# Altium schematic symbol library SCH - MCU - STM32 - ST MICROELECTRONICS STM32H7B3VITXQ LQFP100.SchLib: 1 symbol
Pins are listed as number, name and electrical type; pins without a type are passive.

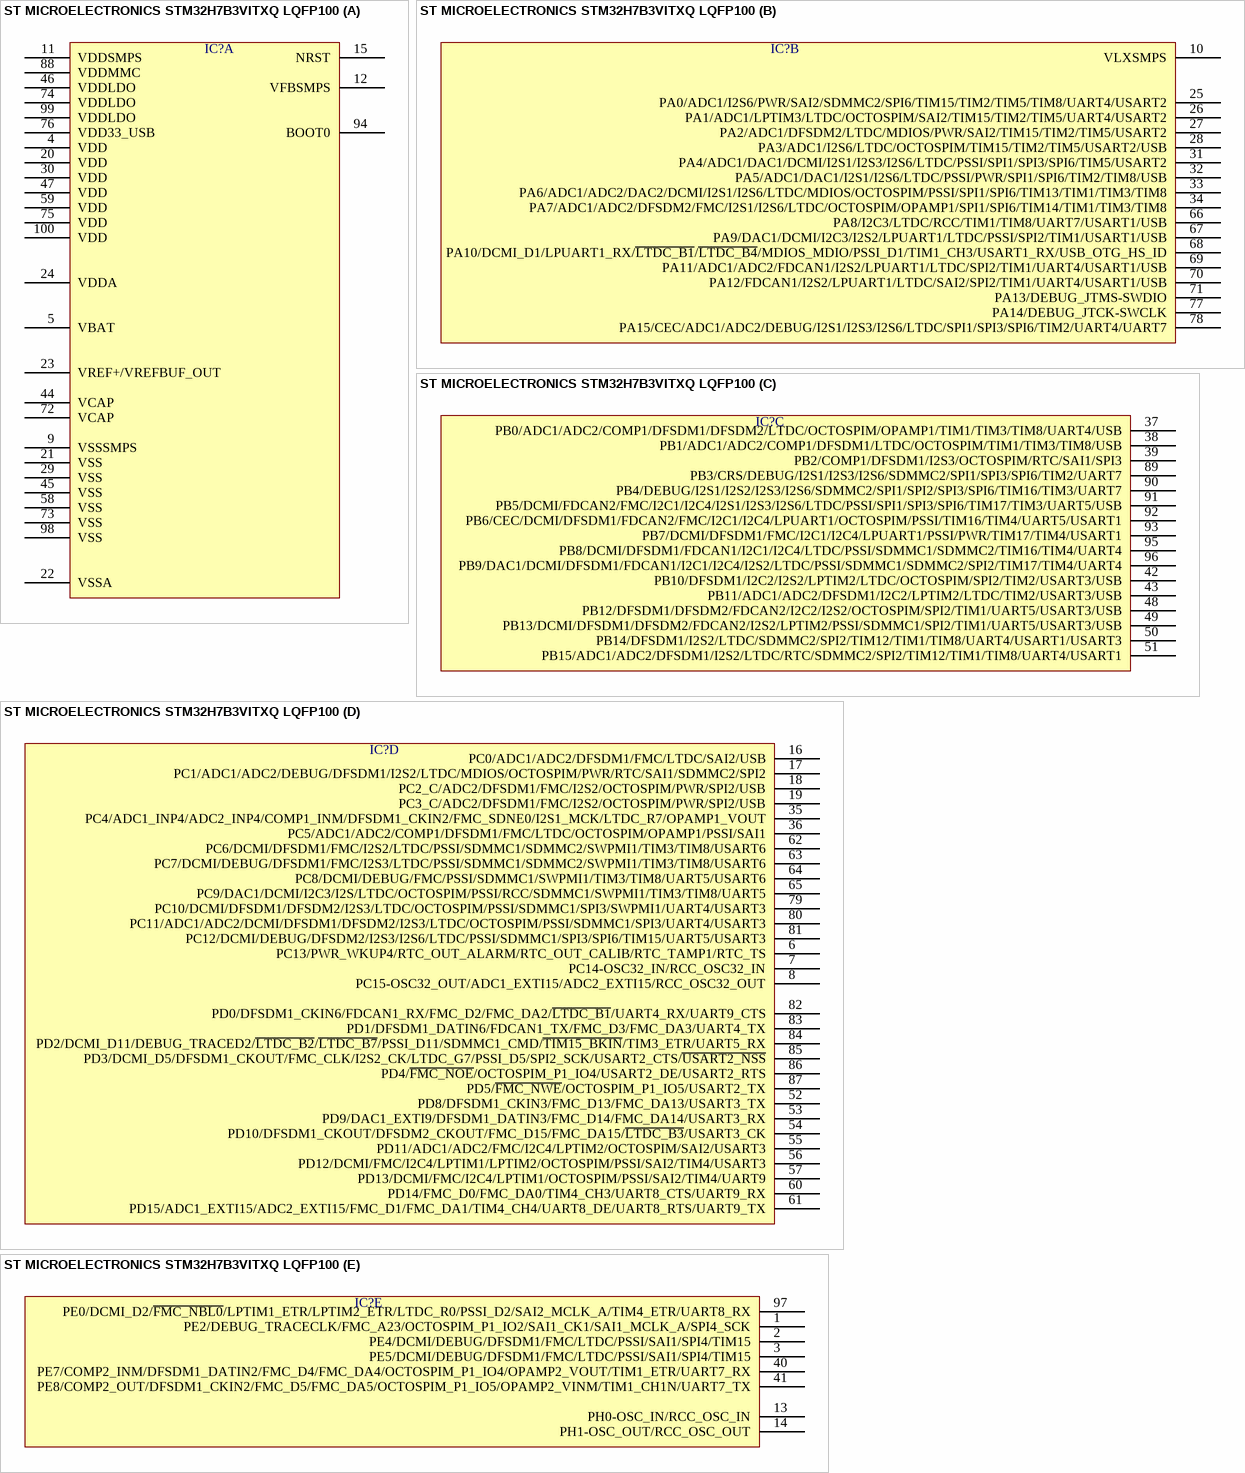
[diagram p0: symbol ST MICROELECTRONICS STM32H7B3VITXQ LQFP100]

## ST MICROELECTRONICS STM32H7B3VITXQ LQFP100
designator IC?  (value not drawn)
part A pins: 4 VDD, 5 VBAT, 9 VSSSMPS, 11 VDDSMPS, 12 VFBSMPS, 15 NRST, 20 VDD, 21 VSS, 22 VSSA, 23 VREF+/VREFBUF_OUT, 24 VDDA, 29 VSS, 30 VDD, 44 VCAP, 45 VSS, 46 VDDLDO, 47 VDD, 58 VSS, 59 VDD, 72 VCAP, 73 VSS, 74 VDDLDO, 75 VDD, 76 VDD33_USB, 88 VDDMMC, 94 BOOT0, 98 VSS, 99 VDDLDO, 100 VDD
part B pins: 10 VLXSMPS, 25 PA0/ADC1/I2S6/PWR/SAI2/SDMMC2/SPI6/TIM15/TIM2/TIM5/TIM8/UART4/USART2, 26 PA1/ADC1/LPTIM3/LTDC/OCTOSPIM/SAI2/TIM15/TIM2/TIM5/UART4/USART2, 27 PA2/ADC1/DFSDM2/LTDC/MDIOS/PWR/SAI2/TIM15/TIM2/TIM5/USART2, 28 PA3/ADC1/I2S6/LTDC/OCTOSPIM/TIM15/TIM2/TIM5/USART2/USB, 31 PA4/ADC1/DAC1/DCMI/I2S1/I2S3/I2S6/LTDC/PSSI/SPI1/SPI3/SPI6/TIM5/USART2, 32 PA5/ADC1/DAC1/I2S1/I2S6/LTDC/PSSI/PWR/SPI1/SPI6/TIM2/TIM8/USB, 33 PA6/ADC1/ADC2/DAC2/DCMI/I2S1/I2S6/LTDC/MDIOS/OCTOSPIM/PSSI/SPI1/SPI6/TIM13/TIM1/TIM3/TIM8, 34 PA7/ADC1/ADC2/DFSDM2/FMC/I2S1/I2S6/LTDC/OCTOSPIM/OPAMP1/SPI1/SPI6/TIM14/TIM1/TIM3/TIM8, 66 PA8/I2C3/LTDC/RCC/TIM1/TIM8/UART7/USART1/USB, 67 PA9/DAC1/DCMI/I2C3/I2S2/LPUART1/LTDC/PSSI/SPI2/TIM1/USART1/USB, 68 PA10/DCMI_D1/LPUART1_RX/~{LTDC_B1}/~{LTDC_B4}/MDIOS_MDIO/PSSI_D1/TIM1_CH3/USART1_RX/USB_OTG_HS_ID, 69 PA11/ADC1/ADC2/FDCAN1/I2S2/LPUART1/LTDC/SPI2/TIM1/UART4/USART1/USB, 70 PA12/FDCAN1/I2S2/LPUART1/LTDC/SAI2/SPI2/TIM1/UART4/USART1/USB, 71 PA13/DEBUG_JTMS-SWDIO, 77 PA14/DEBUG_JTCK-SWCLK, 78 PA15/CEC/ADC1/ADC2/DEBUG/I2S1/I2S3/I2S6/LTDC/SPI1/SPI3/SPI6/TIM2/UART4/UART7
part C pins: 37 PB0/ADC1/ADC2/COMP1/DFSDM1/DFSDM2/LTDC/OCTOSPIM/OPAMP1/TIM1/TIM3/TIM8/UART4/USB, 38 PB1/ADC1/ADC2/COMP1/DFSDM1/LTDC/OCTOSPIM/TIM1/TIM3/TIM8/USB, 39 PB2/COMP1/DFSDM1/I2S3/OCTOSPIM/RTC/SAI1/SPI3, 42 PB10/DFSDM1/I2C2/I2S2/LPTIM2/LTDC/OCTOSPIM/SPI2/TIM2/USART3/USB, 43 PB11/ADC1/ADC2/DFSDM1/I2C2/LPTIM2/LTDC/TIM2/USART3/USB, 48 PB12/DFSDM1/DFSDM2/FDCAN2/I2C2/I2S2/OCTOSPIM/SPI2/TIM1/UART5/USART3/USB, 49 PB13/DCMI/DFSDM1/DFSDM2/FDCAN2/I2S2/LPTIM2/PSSI/SDMMC1/SPI2/TIM1/UART5/USART3/USB, 50 PB14/DFSDM1/I2S2/LTDC/SDMMC2/SPI2/TIM12/TIM1/TIM8/UART4/USART1/USART3, 51 PB15/ADC1/ADC2/DFSDM1/I2S2/LTDC/RTC/SDMMC2/SPI2/TIM12/TIM1/TIM8/UART4/USART1, 89 PB3/CRS/DEBUG/I2S1/I2S3/I2S6/SDMMC2/SPI1/SPI3/SPI6/TIM2/UART7, 90 PB4/DEBUG/I2S1/I2S2/I2S3/I2S6/SDMMC2/SPI1/SPI2/SPI3/SPI6/TIM16/TIM3/UART7, 91 PB5/DCMI/FDCAN2/FMC/I2C1/I2C4/I2S1/I2S3/I2S6/LTDC/PSSI/SPI1/SPI3/SPI6/TIM17/TIM3/UART5/USB, 92 PB6/CEC/DCMI/DFSDM1/FDCAN2/FMC/I2C1/I2C4/LPUART1/OCTOSPIM/PSSI/TIM16/TIM4/UART5/USART1, 93 PB7/DCMI/DFSDM1/FMC/I2C1/I2C4/LPUART1/PSSI/PWR/TIM17/TIM4/USART1, 95 PB8/DCMI/DFSDM1/FDCAN1/I2C1/I2C4/LTDC/PSSI/SDMMC1/SDMMC2/TIM16/TIM4/UART4, 96 PB9/DAC1/DCMI/DFSDM1/FDCAN1/I2C1/I2C4/I2S2/LTDC/PSSI/SDMMC1/SDMMC2/SPI2/TIM17/TIM4/UART4
part D pins: 6 PC13/PWR_WKUP4/RTC_OUT_ALARM/RTC_OUT_CALIB/RTC_TAMP1/RTC_TS, 7 PC14-OSC32_IN/RCC_OSC32_IN, 8 PC15-OSC32_OUT/ADC1_EXTI15/ADC2_EXTI15/RCC_OSC32_OUT, 16 PC0/ADC1/ADC2/DFSDM1/FMC/LTDC/SAI2/USB, 17 PC1/ADC1/ADC2/DEBUG/DFSDM1/I2S2/LTDC/MDIOS/OCTOSPIM/PWR/RTC/SAI1/SDMMC2/SPI2, 18 PC2_C/ADC2/DFSDM1/FMC/I2S2/OCTOSPIM/PWR/SPI2/USB, 19 PC3_C/ADC2/DFSDM1/FMC/I2S2/OCTOSPIM/PWR/SPI2/USB, 35 PC4/ADC1_INP4/ADC2_INP4/COMP1_INM/DFSDM1_CKIN2/FMC_SDNE0/I2S1_MCK/LTDC_R7/OPAMP1_VOUT, 36 PC5/ADC1/ADC2/COMP1/DFSDM1/FMC/LTDC/OCTOSPIM/OPAMP1/PSSI/SAI1, 52 PD8/DFSDM1_CKIN3/FMC_D13/FMC_DA13/USART3_TX, 53 PD9/DAC1_EXTI9/DFSDM1_DATIN3/FMC_D14/FMC_DA14/USART3_RX, 54 PD10/DFSDM1_CKOUT/DFSDM2_CKOUT/FMC_D15/FMC_DA15/~{LTDC_B3}/USART3_CK, 55 PD11/ADC1/ADC2/FMC/I2C4/LPTIM2/OCTOSPIM/SAI2/USART3, 56 PD12/DCMI/FMC/I2C4/LPTIM1/LPTIM2/OCTOSPIM/PSSI/SAI2/TIM4/USART3, 57 PD13/DCMI/FMC/I2C4/LPTIM1/OCTOSPIM/PSSI/SAI2/TIM4/UART9, 60 PD14/FMC_D0/FMC_DA0/TIM4_CH3/UART8_CTS/UART9_RX, 61 PD15/ADC1_EXTI15/ADC2_EXTI15/FMC_D1/FMC_DA1/TIM4_CH4/UART8_DE/UART8_RTS/UART9_TX, 62 PC6/DCMI/DFSDM1/FMC/I2S2/LTDC/PSSI/SDMMC1/SDMMC2/SWPMI1/TIM3/TIM8/USART6, 63 PC7/DCMI/DEBUG/DFSDM1/FMC/I2S3/LTDC/PSSI/SDMMC1/SDMMC2/SWPMI1/TIM3/TIM8/USART6, 64 PC8/DCMI/DEBUG/FMC/PSSI/SDMMC1/SWPMI1/TIM3/TIM8/UART5/USART6, 65 PC9/DAC1/DCMI/I2C3/I2S/LTDC/OCTOSPIM/PSSI/RCC/SDMMC1/SWPMI1/TIM3/TIM8/UART5, 79 PC10/DCMI/DFSDM1/DFSDM2/I2S3/LTDC/OCTOSPIM/PSSI/SDMMC1/SPI3/SWPMI1/UART4/USART3, 80 PC11/ADC1/ADC2/DCMI/DFSDM1/DFSDM2/I2S3/LTDC/OCTOSPIM/PSSI/SDMMC1/SPI3/UART4/USART3, 81 PC12/DCMI/DEBUG/DFSDM2/I2S3/I2S6/LTDC/PSSI/SDMMC1/SPI3/SPI6/TIM15/UART5/USART3, 82 PD0/DFSDM1_CKIN6/FDCAN1_RX/FMC_D2/FMC_DA2/~{LTDC_B1}/UART4_RX/UART9_CTS, 83 PD1/DFSDM1_DATIN6/FDCAN1_TX/FMC_D3/FMC_DA3/UART4_TX, 84 PD2/DCMI_D11/DEBUG_TRACED2/~{LTDC_B2}/~{LTDC_B7}/PSSI_D11/SDMMC1_CMD/~{TIM15_BKIN}/TIM3_ETR/UART5_RX, 85 PD3/DCMI_D5/DFSDM1_CKOUT/FMC_CLK/I2S2_CK/LTDC_G7/PSSI_D5/SPI2_SCK/USART2_CTS/~{USART2_NSS}, 86 PD4/~{FMC_NOE}/OCTOSPIM_P1_IO4/USART2_DE/USART2_RTS, 87 PD5/~{FMC_NWE}/OCTOSPIM_P1_IO5/USART2_TX
part E pins: 1 PE2/DEBUG_TRACECLK/FMC_A23/OCTOSPIM_P1_IO2/SAI1_CK1/SAI1_MCLK_A/SPI4_SCK, 2 PE4/DCMI/DEBUG/DFSDM1/FMC/LTDC/PSSI/SAI1/SPI4/TIM15, 3 PE5/DCMI/DEBUG/DFSDM1/FMC/LTDC/PSSI/SAI1/SPI4/TIM15, 13 PH0-OSC_IN/RCC_OSC_IN, 14 PH1-OSC_OUT/RCC_OSC_OUT, 40 PE7/COMP2_INM/DFSDM1_DATIN2/FMC_D4/FMC_DA4/OCTOSPIM_P1_IO4/OPAMP2_VOUT/TIM1_ETR/UART7_RX, 41 PE8/COMP2_OUT/DFSDM1_CKIN2/FMC_D5/FMC_DA5/OCTOSPIM_P1_IO5/OPAMP2_VINM/TIM1_CH1N/UART7_TX, 97 PE0/DCMI_D2/~{FMC_NBL0}/LPTIM1_ETR/LPTIM2_ETR/LTDC_R0/PSSI_D2/SAI2_MCLK_A/TIM4_ETR/UART8_RX